# Altium schematic symbol library STL90N6F7.SchLib: 1 symbol
Pins are listed as number, name and electrical type; pins without a type are passive.

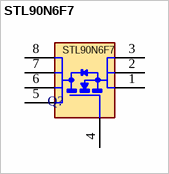
[diagram p0: symbol STL90N6F7]

## STL90N6F7
designator Q?  (value not drawn)
MOSFET N-CH 60V 90A POWERFLAT
footprint STL90N6F7
pins: 1 S, 2 S, 3 S, 4 G, 5 D, 6 D, 7 D, 8 D